# Altium schematic symbol library Header_6P_ISP_1.Schlib: 1 symbol
Pins are listed as number, name and electrical type; pins without a type are passive.

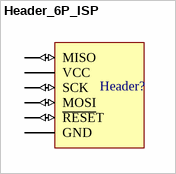
[diagram p0: symbol Header_6P_ISP]

## Header_6P_ISP
designator Header?
footprint Header_ISP_6P
footprint Header_ISP_6P_SMD
pins: 1 MISO (io), 2 VCC (power), 3 SCK (io), 4 MOSI (io), 5 ~{RESE}T (io), 6 GND (power)